# Altium schematic symbol library logics.SchLib: 5 symbols
Pins are listed as number, name and electrical type; pins without a type are passive.

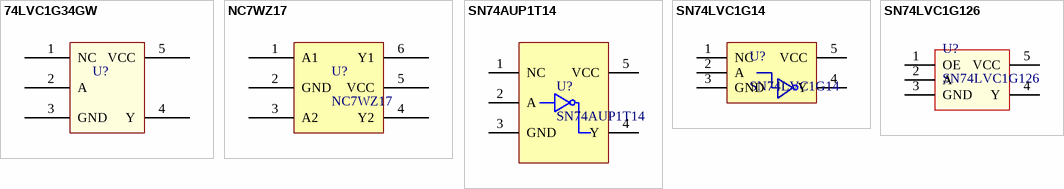
[diagram p0: symbols 74LVC1G34GW to SN74LVC1G126]

## 74LVC1G34GW
designator U?  (value not drawn)
Low power single buffer; Supplier 1: DIgikey; Supplier Part Number 1: 568-7766-1-ND
footprint SC-70-5 (DCK)
pins: 1 NC, 2 A, 3 GND, 4 Y, 5 VCC

## NC7WZ17
designator U?
UHS Dual Buffer with Schmitt Trigger Inputs; Supplier 1: Digi-Key; Supplier Part Number 1: NC7WZ17P6XCT-ND
footprint SC-70-6
pins: 1 A1, 2 GND, 3 A2, 4 Y2, 5 VCC, 6 Y1

## SN74AUP1T14
designator U?
LOW POWER, 1.8/2.5/3.3-V INPUT, 3.3-V CMOS OUTPUT, SINGLE  SCHMITT-TRIGGER INVERTER GATE; Supplier 1: Digi-Key; Supplier Part Number 1: 296-27392-1-ND
footprint SC-70-5 (DCK)
pins: 1 NC (power), 2 A (power), 3 GND (power), 4 Y (power), 5 VCC (power)

## SN74LVC1G14
designator U?
SN74LVC1G14 Single Schmitt-Trigger Inverter; Supplier 1: Digi-Key; Supplier Part Number 1: 296-11607-6-ND
footprint SOT23-5 (SOT23, 5-Leads, Body 2.90x2.45mm, Pitch 0.95mm, IPC Medium Density)
pins: 1 NC, 2 A, 3 GND, 4 Y, 5 VCC

## SN74LVC1G126
designator U?
Single Bus Buffer Gate With 3-State Output; Supplier 1: Digi-Key; Supplier Part Number 1: 296-11605-1-ND
footprint SOT23-5 (SOT23, 5-Leads, Body 2.9x1.6mm, Pitch 0.95mm, Lead Span 2.8mm, IPC High Density)
pins: 1 OE, 2 A, 3 GND, 4 Y, 5 VCC